# Altium schematic symbol library Logic.SchLib: 2 symbols
Pins are listed as number, name and electrical type; pins without a type are passive.

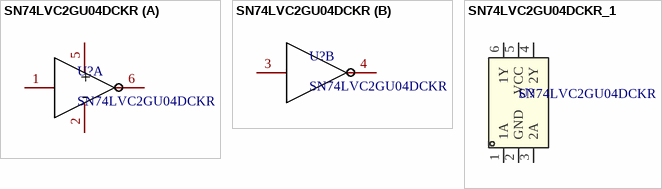
[diagram p0: symbols SN74LVC2GU04DCKR to SN74LVC2GU04DCKR_1]

## SN74LVC2GU04DCKR
designator U?
footprint SC-70-6_L2.2-W1.3-P0.65-LS2.1-BL (SC-70-6; -; SC-70-6(SOT-363); SC-88-6; SOT-26; SC-70-6L; SOT-363-6(SC-70-6); SOT-363-6; SOT-363-6(SC-70); SOT-363; SOT-323-6; SOT-363(SC-70-6); SC-70(SC-70-3); SC-70; SC-88(SC-70-6); SC70-6)
part A pins: 1 IN1, 2 GND, 5 +, 6 OUT1
part B pins: 3 IN2, 4 OUT2
part A text: -

## SN74LVC2GU04DCKR_1
designator U?, comment SN74LVC2GU04DCKR
输入类型:-;工作电压:1.65V~5.5V;静态电流(Iq):10uA;通道数:2;传播延迟(tpd):3.5ns@5V,50pF;; Manufacturer: TI(德州仪器); SEEX_AUTHOR: ref42; SEEX_COMPONENT_ID: C116660; Current - Output High(IOH): 32mA; Input Logic Level - High: 1.24V~4.13V; Input Logic Level -Low: 410mV~1.38V; Number of Circuits: 2; Quiescent Current(Iq): 10uA; SEEX_PROJECT_URL: https://github.com/ref42/seex; Footprint: SC-70-6_L2.2-W1.3-P0.65-LS2.1-BL; Current - Output Low(IOL): 32mA; Datasheet: https://www.ti.com/cn/lit/ds/symlink/sn74lvc2gu04.pdf; Features: 电源关断保护; JLCPCB Part Class: Extended Part; LCSC Part Name: 双路反相器; Manufacturer Part: SN74LVC2GU04DCKR; Operating Temperature: -40℃~+125℃; Propagation Delay: 3.5ns@5V,50pF; Series: 74LVC; Supplier: LCSC; Supplier Footprint: SC-70-6; Supplier Part: C116660; Voltage - Supply: 1.65V~5.5V
footprint SC-70-6_L2.2-W1.3-P0.65-LS2.1-BL (SC-70-6; -; SC-70-6(SOT-363); SC-88-6; SOT-26; SC-70-6L; SOT-363-6(SC-70-6); SOT-363-6; SOT-363-6(SC-70); SOT-363; SOT-323-6; SOT-363(SC-70-6); SC-70(SC-70-3); SC-70; SC-88(SC-70-6); SC70-6)
pins: 1 1A, 2 GND, 3 2A, 4 2Y, 5 VCC, 6 1Y